# Altium schematic symbol library Driver_Relay.SchLib: 5 symbols
Pins are listed as number, name and electrical type; pins without a type are passive.

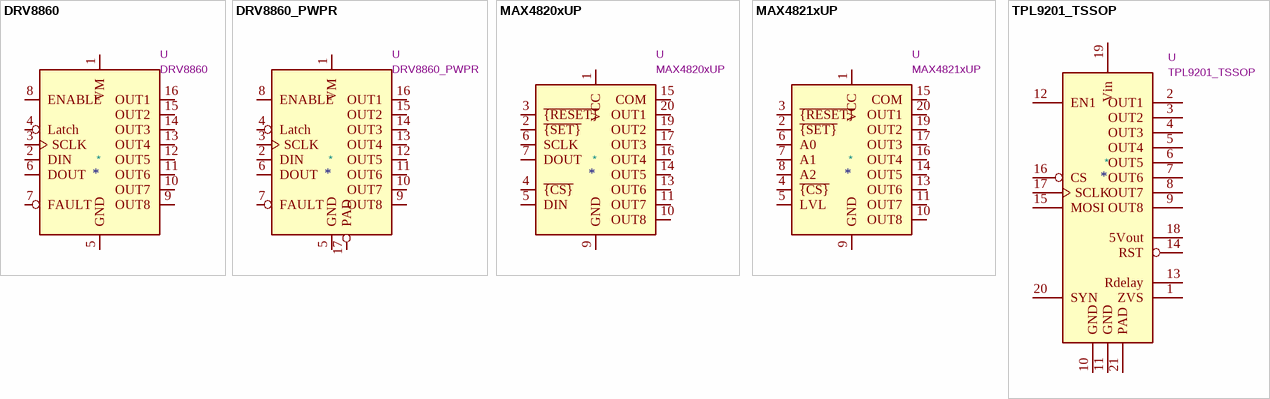
[diagram p0: symbols DRV8860 to TPL9201_TSSOP]

## DRV8860
designator *  value DRV8860  Reference: U
ki_keywords: Relay Driver; ki_description: 8-Channel Serial Interface Low-Side Driver; ki_fp_filters: TSSOP*4.4x5mm*P0.65mm*; Footprint: Package_SO:TSSOP-16_4.4x5mm_P0.65mm; Datasheet: http://www.ti.com/lit/ds/symlink/drv8860.pdf
pins: 1 VM, 2 DIN, 3 SCLK, 4 Latch, 5 GND, 6 DOUT, 7 FAULT, 8 ENABLE, 9 OUT8, 10 OUT7, 11 OUT6, 12 OUT5, 13 OUT4, 14 OUT3, 15 OUT2, 16 OUT1

## DRV8860_PWPR
designator *  value DRV8860_PWPR  Reference: U
ki_keywords: Relay Driver; ki_description: 8-Channel Serial Interface Low-Side Driver; ki_fp_filters: TSSOP*4.4x5mm*P0.65mm*; Footprint: Package_SO:TSSOP-16-1EP_4.4x5mm_P0.65mm; Datasheet: http://www.ti.com/lit/ds/symlink/drv8860.pdf
pins: 1 VM, 2 DIN, 3 SCLK, 4 Latch, 5 GND, 6 DOUT, 7 FAULT, 8 ENABLE, 9 OUT8, 10 OUT7, 11 OUT6, 12 OUT5, 13 OUT4, 14 OUT3, 15 OUT2, 16 OUT1, 17 PAD

## MAX4820xUP
designator *  value MAX4820xUP  Reference: U
ki_keywords: Relay Driver; ki_description: 8-Channel Serial Interface Low-Side Driver, TSSOP-20; ki_fp_filters: *TSSOP*4.4x6.5mm*P0.65mm*; Footprint: Package_SO:HTSSOP-20-1EP_4.4x6.5mm_P0.65mm_EP2.85x4mm; Datasheet: https://datasheets.maximintegrated.com/en/ds/MAX4820-MAX4821.pdf
pins: 1 VCC, 2 ~{{SET}}, 3 ~{{RESET}}, 4 ~{{CS}}, 5 DIN, 6 SCLK, 7 DOUT, 8 NC hidden, 9 GND, 10 OUT8, 11 OUT7, 12 GND hidden, 13 OUT6, 14 OUT5, 15 COM, 16 OUT4, 17 OUT3, 18 GND hidden, 19 OUT2, 20 OUT1, 21 GND hidden

## MAX4821xUP
designator *  value MAX4821xUP  Reference: U
ki_keywords: Relay Driver; ki_description: 8-Channel Parallel Interface Low-Side Driver, TSSOP-20; ki_fp_filters: *TSSOP*4.4x6.5mm*P0.65mm*; Footprint: Package_SO:HTSSOP-20-1EP_4.4x6.5mm_P0.65mm_EP2.85x4mm; Datasheet: https://datasheets.maximintegrated.com/en/ds/MAX4820-MAX4821.pdf
pins: 1 VCC, 2 ~{{SET}}, 3 ~{{RESET}}, 4 ~{{CS}}, 5 LVL, 6 A0, 7 A1, 8 A2, 9 GND, 10 OUT8, 11 OUT7, 12 GND hidden, 13 OUT6, 14 OUT5, 15 COM, 16 OUT4, 17 OUT3, 18 GND hidden, 19 OUT2, 20 OUT1, 21 GND hidden

## TPL9201_TSSOP
designator *  value TPL9201_TSSOP  Reference: U
ki_keywords: Relay Driver; ki_description: 8-CHANNEL RELAY DRIVER WITH INTEGRATED 5-V LDO AND ZERO-VOLT DETECTION TSSOP-20; ki_fp_filters: HTSSOP*4.4x6.5mm*P0.65mm*ThermalVias*; Footprint: Package_SO:HTSSOP-20-1EP_4.4x6.5mm_P0.65mm_EP3.4x6.5mm_ThermalVias; Datasheet: http://www.ti.com/lit/ds/symlink/tpl9201.pdf
pins: 1 ZVS, 2 OUT1, 3 OUT2, 4 OUT3, 5 OUT4, 6 OUT5, 7 OUT6, 8 OUT7, 9 OUT8, 10 GND, 11 GND, 12 EN1, 13 Rdelay, 14 RST, 15 MOSI, 16 CS, 17 SCLK, 18 5Vout, 19 Vin, 20 SYN, 21 PAD